# Altium schematic symbol library Schlib_Runic.SchLib: 16 symbols
Pins are listed as number, name and electrical type; pins without a type are passive.

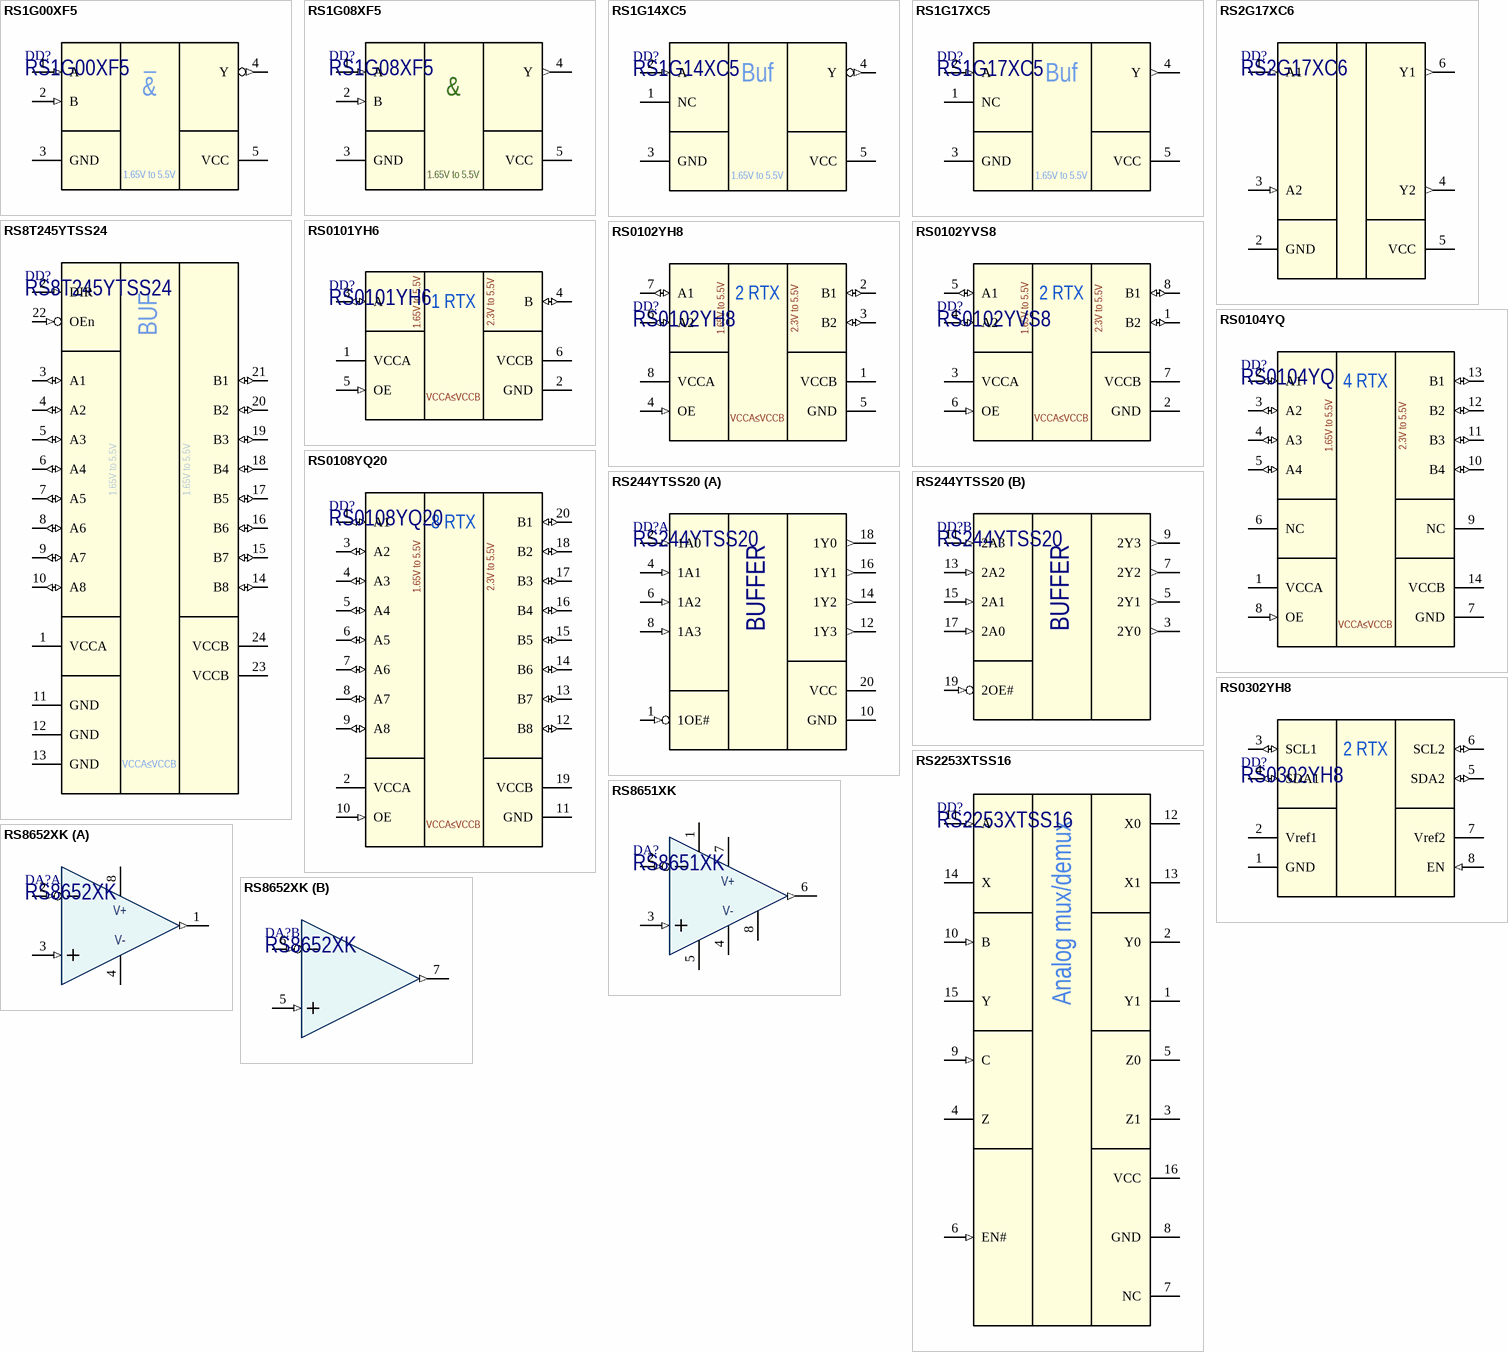
[diagram p0: symbols RS1G00XF5 to RS8652XK]

## RS1G00XF5
designator DD?
Single 2–Input Positive-NAND Gate; Manufacturer: Jiangsu Runic Technology; AltManufacturer: Texas Instruments; Alternative: SN74AHC1G00DBVR; Part Number: RS1G00XF5; Package: SOT23-5
footprint SOT23-5 (SOT23, 6-Leads, Body 2.90x2.80mm, Pitch 0.95mm, IPC Medium Density)
pins: 1 A (in), 2 B (in), 3 GND (power), 4 Y (out), 5 VCC (power)
text: &; 1.65V to 5.5V

## RS1G08XF5
designator DD?
Single 2–Input Positive-AND Gate; Manufacturer: Jiangsu Runic Technology; AltManufacturer: Texas Instruments; Alternative: SN74AHC1G08DBVR; Part Number: RS1G08XF5; Package: SOT23-5
footprint SOT23-5 (SOT23, 6-Leads, Body 2.90x2.80mm, Pitch 0.95mm, IPC Medium Density)
pins: 1 A (in), 2 B (in), 3 GND (power), 4 Y (out), 5 VCC (power)
text: &; 1.65V to 5.5V

## RS1G14XC5
designator DD?
Single Schmitt-Trigger Inverter; Manufacturer: Jiangsu Runic Technology; AltManufacturer: Texas Instruments; Alternative: SN74LVC1G14DCK; Part Number: RS1G14XC5; Package: SC70-5
footprint SC70-5
pins: 1 NC (hiz), 2 A (in), 3 GND (power), 4 Y (out), 5 VCC (power)
text: Buf; 1.65V to 5.5V

## RS1G17XC5
designator DD?
Single Schmitt-Trigger Buffer; Manufacturer: Jiangsu Runic Technology; AltManufacturer: Texas Instruments; Alternative: SN74LVC1G17DCK; Part Number: RS1G17XC5; Package: SC70-5
footprint SC70-5
pins: 1 NC (hiz), 2 A (in), 3 GND (power), 4 Y (out), 5 VCC (power)
text: Buf; 1.65V to 5.5V

## RS2G17XC6
designator DD?
Dual Schmitt-Trigger buffer; Manufacturer: Jiangsu Runic Technology; AltManufacturer: ON Semiconductor; Alternative: NC7WZ17P6X; Package: SC70-6; Part Number: RS2G17XC6
footprint SC70-6
pins: 1 A1 (in), 2 GND (power), 3 A2 (in), 4 Y2 (out), 5 VCC (power), 6 Y1 (out)

## RS8T245YTSS24
designator DD?
8-Bit Dual-Supply Bus Transceiver with Configurable Voltage Translation and 3-State Output; Manufacturer: Jiangsu Runic Technology; AltManufacturer: Texas Instruments; Alternative: SN74LVC8T245PWR; Part Number: RS8T245YTSS24; Package: TSSOP-24
footprint TSSOP-24 (TSOP, 24-Leads, Pitch 0.65mm, IPC Medium Density)
pins: 1 VCCA (power), 2 DIR (in), 3 A1 (io), 4 A2 (io), 5 A3 (io), 6 A4 (io), 7 A5 (io), 8 A6 (io), 9 A7 (io), 10 A8 (io), 11 GND (power), 12 GND (power), 13 GND (power), 14 B8 (io), 15 B7 (io), 16 B6 (io), 17 B5 (io), 18 B4 (io), 19 B3 (io), 20 B2 (io), 21 B1 (io), 22 OEn (in), 23 VCCB (power), 24 VCCB (power)
text: BUF; 1.65V to 5.5V; VCCA≤VCCB

## RS0101YH6
designator DD?
1-Bit Bidirectional Voltage-Level Translator for OpenDrain and Push-Pull Application; Manufacturer: Jiangsu Runic Technology; Part Number: RS0101YH6; Package: SOT23-6
footprint SOT23-6 (SOT23, 6-Leads, Body 2.90x2.80mm, Pitch 0.95mm, IPC Medium Density)
pins: 1 VCCA (power), 2 GND (power), 3 A (io), 4 B (io), 5 OE (in), 6 VCCB (power)
text: 1.65V to 5.5V; 1 RTX; 2.3V to 5.5V; VCCA≤VCCB

## RS0102YH8
designator DD?
2-Bit Bidirectional Voltage-Level Translator for OpenDrain and Push-Pull Application; Manufacturer: Jiangsu Runic Technology; Part Number: RS0102YH8; Package: SOT23-8
footprint SOT23-8 (SOT23-8, 8-Leads, Body 2,90x1,63mm, Pitch 0,65mm, IPC Medium Density)
pins: 1 VCCB (power), 2 B1 (io), 3 B2 (io), 4 OE (in), 5 GND (power), 6 A2 (io), 7 A1 (io), 8 VCCA (power)
text: 2 RTX; 1.65V to 5.5V; 2.3V to 5.5V; VCCA≤VCCB

## RS0102YVS8
designator DD?
2-Bit Bidirectional Voltage-Level Translator for OpenDrain and Push-Pull Application; Manufacturer: Jiangsu Runic Technology; Part Number: RS0102YVS8; Package: SOT23-8
footprint VSSOP-8_SM8 (VSSOP, 8-Leads, Body 2.30x2.00mm, Pitch 0.5mm, IPC Medium Density)
pins: 1 B2 (io), 2 GND (power), 3 VCCA (power), 4 A2 (io), 5 A1 (io), 6 OE (in), 7 VCCB (power), 8 B1 (io)
text: 2 RTX; 1.65V to 5.5V; 2.3V to 5.5V; VCCA≤VCCB

## RS0104YQ
designator DD?
4-Bit Bidirectional Voltage-Level Translator for OpenDrain and Push-Pull Applications; Manufacturer: Jiangsu Runic Technology; Part Number: RS0104YQ; Package: TSSOP-14
footprint TSSOP-14 (TSOP, 20-Leads, Body 6.50x4.40mm, Pitch 0.65mm, IPC Medium Density)
pins: 1 VCCA (power), 2 A1 (io), 3 A2 (io), 4 A3 (io), 5 A4 (io), 6 NC, 7 GND (power), 8 OE (in), 9 NC, 10 B4 (io), 11 B3 (io), 12 B2 (io), 13 B1 (io), 14 VCCB (power)
text: 4 RTX; 1.65V to 5.5V; 2.3V to 5.5V; VCCA≤VCCB

## RS0108YQ20
designator DD?
8-Bit Bidirectional Voltage-Level Translator for OpenDrain and Push-Pull Applications; Manufacturer: Jiangsu Runic Technology; AltManufacturer: Texas Instruments; Alternative: TXS0108EPW; Part Number: RS0108YQ20; Package: TSSOP-20
footprint TSSOP-20 (TSOP, 20-Leads, Body 6.50x4.40mm, Pitch 0.65mm, IPC Medium Density)
pins: 1 A1 (io), 2 VCCA (power), 3 A2 (io), 4 A3 (io), 5 A4 (io), 6 A5 (io), 7 A6 (io), 8 A7 (io), 9 A8 (io), 10 OE (in), 11 GND (power), 12 B8 (io), 13 B7 (io), 14 B6 (io), 15 B5 (io), 16 B4 (io), 17 B3 (io), 18 B2 (io), 19 VCCB (power), 20 B1 (io)
text: 8 RTX; 1.65V to 5.5V; 2.3V to 5.5V; VCCA≤VCCB

## RS244YTSS20
designator DD?
Octal Buffer/Driver With 3-State Outputs; Manufacturer: Jiangsu Runic Technology; Part Number: RS244YTSS20; Package: TSSOP-20
footprint TSSOP-20 (TSOP, 20-Leads, Body 6.50x4.40mm, Pitch 0.65mm, IPC Medium Density)
part A pins: 1 1OE# (in), 2 1A0 (in), 4 1A1 (in), 6 1A2 (in), 8 1A3 (in), 10 GND (power), 12 1Y3 (out), 14 1Y2 (out), 16 1Y1 (out), 18 1Y0 (out), 20 VCC (power)
part B pins: 3 2Y0 (out), 5 2Y1 (out), 7 2Y2 (out), 9 2Y3 (out), 11 2A3 (in), 13 2A2 (in), 15 2A1 (in), 17 2A0 (in), 19 2OE# (in)
part A text: BUFFER
part B text: BUFFER

## RS0302YH8
designator DD?
Dual Bidirectional I2C-Bus and SMBus Voltage-Level Translator; Manufacturer: Jiangsu Runic Technology; Part Number: RS0302YH8; Package: SOT23-8
footprint SOT23-8 (SOT23-8, 8-Leads, Body 2,90x1,63mm, Pitch 0,65mm, IPC Medium Density)
pins: 1 GND (power), 2 Vref1 (power), 3 SCL1 (io), 4 SDA1 (io), 5 SDA2 (io), 6 SCL2 (io), 7 Vref2 (power), 8 EN (in)
text: 2 RTX

## RS2253XTSS16
designator DD?
CMOS Triple 2-Channel Analog Multiplexer/Demultiplexer; Manufacturer: Jiangsu Runic Technology; AltManufacturer: NXP; Alternative: 74HC4053PW,118; Package: TSSOP-16; Part Number: RS2253XTSS16
footprint TSSOP-16 (TSOP, 20-Leads, Body 6.50x4.40mm, Pitch 0.65mm, IPC Medium Density)
pins: 1 Y1, 2 Y0, 3 Z1, 4 Z, 5 Z0, 6 EN# (in), 7 NC (hiz), 8 GND (power), 9 C (in), 10 B (in), 11 A (in), 12 X0, 13 X1, 14 X, 15 Y, 16 VCC (power)
text: Analog mux/demux

## RS8651XK
designator DA?
Precision, Zero-Drift, Rail-to-Rail Out, High-Voltage(32V) Operational Amplifier; Manufacturer: Jiangsu Runic Technology; Package: SOIC-8; Part Number: RS8651XK
footprint SOIC-8 (SOIC-8 package)
footprint SOIC-8_with_DIP-8 (Plastic DIP, 8 pin, lead pitch 2.54mm (0.1"), row spacing 7.62mm (0.3").)
pins: 1 NC (hiz), 2 IN- (in), 3 IN+ (in), 4 V- (power), 5 NC (hiz), 6 OUT (out), 7 V+ (power), 8 NC (hiz)

## RS8652XK
designator DA?
Precision, Zero-Drift, Rail-to-Rail Out, High-Voltage(32V) Operational Amplifier; Manufacturer: Jiangsu Runic Technology; Package: SOIC-8; Part Number: RS8652XK
footprint SOIC-8 (SOIC-8 package)
footprint SOIC-8_with_DIP-8 (Plastic DIP, 8 pin, lead pitch 2.54mm (0.1"), row spacing 7.62mm (0.3").)
part A pins: 1 1OUT (out), 2 1IN- (in), 3 1IN+ (in), 4 V- (power), 8 V+ (power)
part B pins: 5 2IN+ (in), 6 2IN- (in), 7 2OUT (out)